# Altium footprint library DiodeRes.PcbLib: 13 footprints
Each footprint in its own frame and in the unit in brackets; x right, y up, seen from the top. Pads: shape width x height; smd on the part's side, far side on the other; paste and mask are expansions set on the pad; w line width, h text height; cw(c..) or ccw(c..) is an arc to the next point about the centre after c.
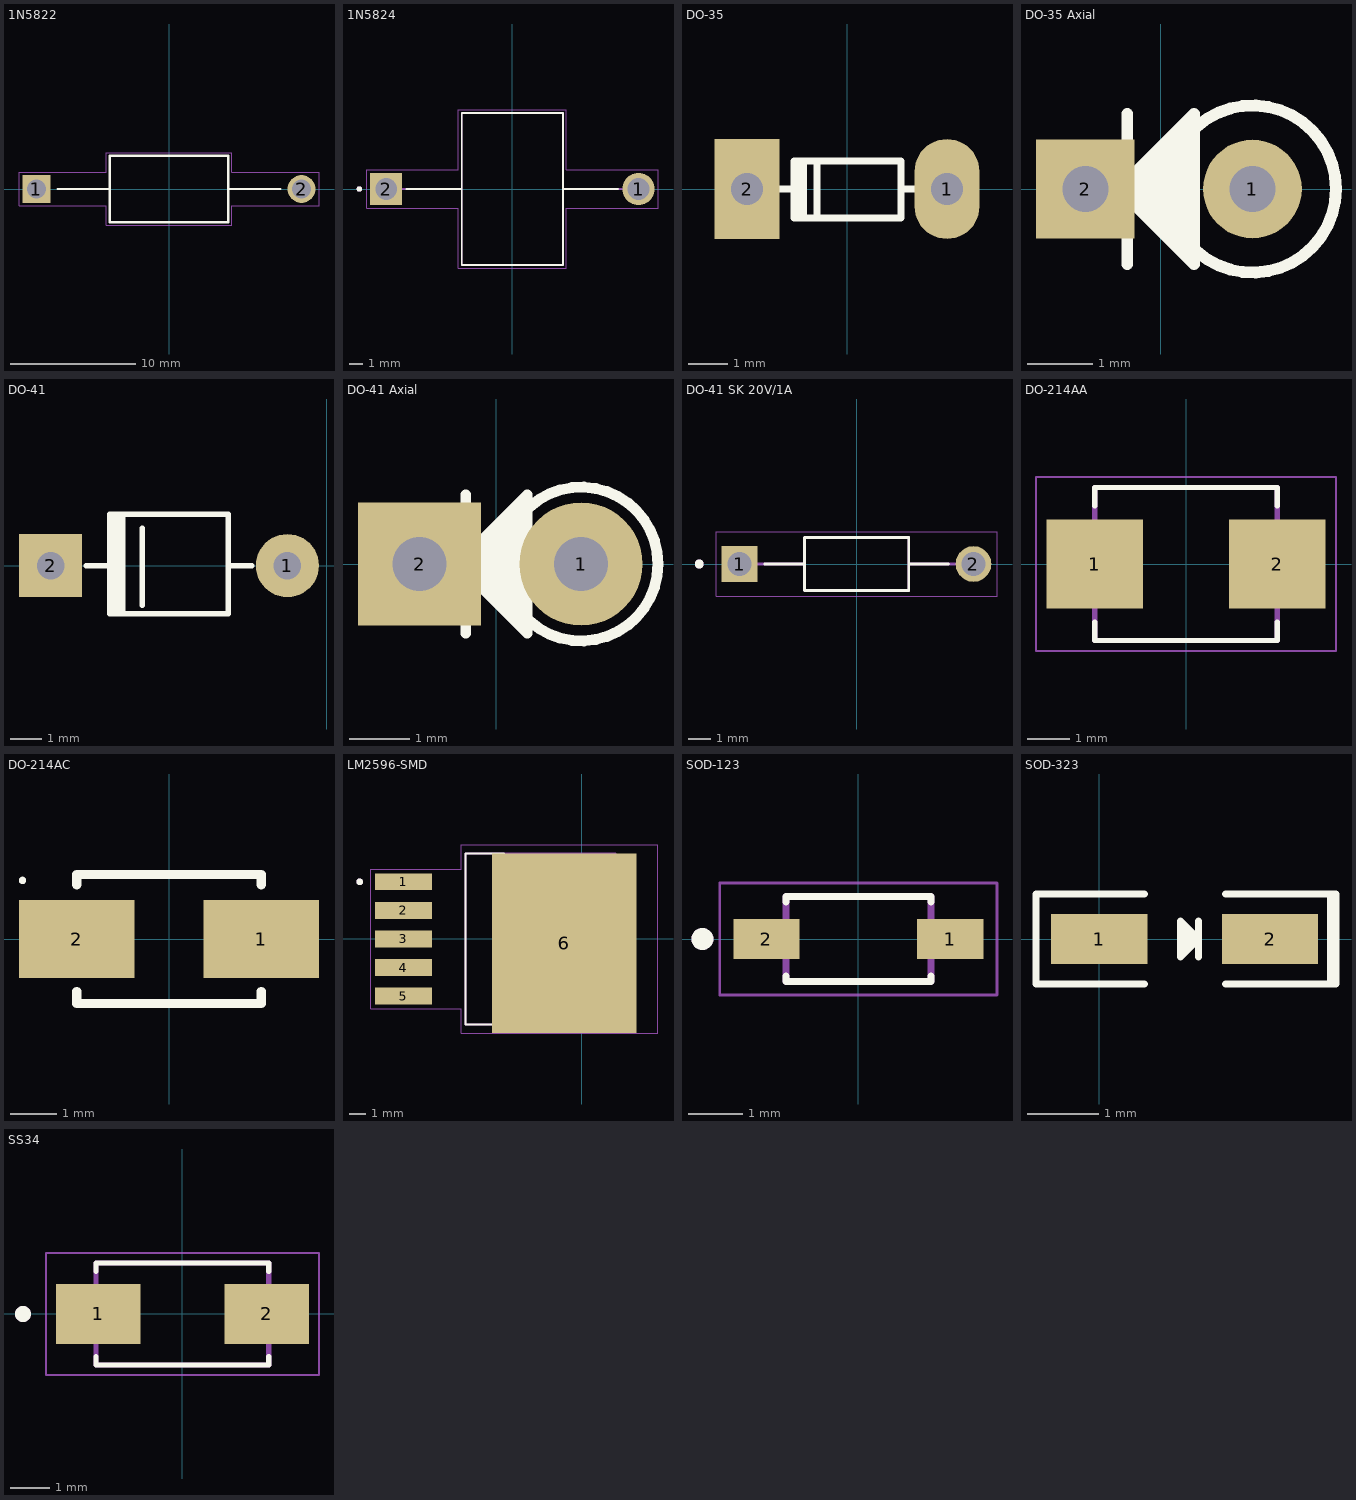
[diagram p0: the footprints below, top view; thin cyan lines are the x and y axes]

## 1N5822 [mm]
pads (2):
  rect 2.25x2.25 / inner round 2.25 / far side rect 2.25x2.25 hole 1.5: 1(-10.6,0)
  round 2.25 hole 1.5: 2(10.6,0)
Top Overlay:
  lines w0.2: -8.89,0 -4.8,0 ; 4.8,0 8.89,0 ; -4.75,-2.65 -4.75,2.65 4.75,2.65 4.75,-2.65 -4.75,-2.65
Mechanical 15:
  lines w0.05: -12,-1.35 -5,-1.35 -5,-2.9 5,-2.9 5,-1.35 12,-1.35 12,1.35 5,1.35 5,2.9 -5,2.9 -5,1.35 -12,1.35 -12,-1.35
3D body "step_temp.STEP": height 4.6, standoff -26.17, extent -8.1,-2.3 8.1,2.3

## 1N5824 [mm]
pads (2):
  round 2.43 hole 1.62: 1(9.49,0)
  rect 2.43x2.43 hole 1.62: 2(-9.49,0)
Top Overlay:
  circle w0.2: c-11.5,0 r0.1
  lines w0.127: -7.96,0 -3.81,0 ; 7.96,0 3.81,0 ; -3.81,0 -3.81,5.72 3.81,5.72 3.81,0 ; -3.81,0 -3.81,-5.72 3.81,-5.72 3.81,0
Mechanical 13:
  circle w0.2: c-11.5,0 r0.1
  lines w0.127: -8.275,0 -3.81,0 ; 8.275,0 3.81,0 ; -3.81,0 -3.81,5.72 3.81,5.72 3.81,0 ; -3.81,0 -3.81,-5.72 3.81,-5.72 3.81,0
Mechanical 15:
  lines w0.05: -10.955,-1.465 -4.06,-1.465 -4.06,-5.97 4.06,-5.97 4.06,-1.465 10.955,-1.465 10.955,1.465 4.06,1.465 4.06,5.97 -4.06,5.97 -4.06,1.465 -10.955,1.465 -10.955,-1.465

## DO-35 [mil] "Diode 0.5A"
height 80
pads (2):
  oval 65x100 hole 32: 1(100,0)
  rect 65x100 hole 32: 2(-100,0)
Top Overlay:
  rectangle: -55,-30 -40,25
  lines w7: -80,0 -53,0 ; -30,-29 -30,28 ; 54,0 80,0 ; -53,-29 -53,28 54,28 54,-29 -53,-29
3D body "SW3dPS-1N4148.STEP": height 61.22, standoff -50, extent -108.5,-32.96 108.5,32

## DO-35 Axial [mm] "Diode 0.5A Axial"
height 2.54
pads (2):
  round 1.5 hole 0.7: 1(1.397,0)
  rect 1.5x1.5 hole 0.7: 2(-1.143,0)
Top Overlay:
  circle w0.178: c1.397,0 r1.27
  region: 0.508,1.016 0.508,-1.016 0.381,-1.016 -0.508,-0.127 -0.508,0.127
  lines w0.178: -0.762,0 -0.508,0 ; -0.508,-1.143 -0.508,1.143 ; -0.508,-0.127 0.508,-1.143 0.508,1.143 -0.508,0.127 -0.508,-0.127

## DO-41 [mil] "Diode 1A"
height 100
pads (2):
  round 80 hole 35: 1(-50,0)
  rect 80x80 hole 35: 2(-350,0)
Top Overlay:
  rectangle: -275,-60.98 -255,65
  lines w7: -305,0 -275,0 ; -275,-16 -275,0 ; -275,21 -275,0 ; -234,-50 -234,47 ; -125,0 -95,0 ; -275,0 -275,65 -125,65 -125,-60.98 -275,-60.98 -275,0
3D body "User Library-DO-15-1.step": height 122.05, standoff -137.8, extent -365.75,-60.98 -34.25,65

## DO-41 Axial [mil] "Diode 1A Axial"
height 100
pads (2):
  round 80 hole 35: 1(55,0)
  rect 80x80 hole 35: 2(-50,0)
Top Overlay:
  circle w7: c55,0 r50
  region: 20,40 20,-40 15,-40 -20,-5 -20,5
  lines w7: -30,0 -20,0 ; -20,-45 -20,45 ; -20,-5 20,-45 20,45 -20,5 -20,-5

## DO-41 SK 20V/1A [mm] "Diode Schottky 20V 1A"
height 2.72
pads (2):
  rect 1.59x1.59 / inner round 1.59 / far side rect 1.59x1.59 hole 1.06: 1(-5.197,0)
  round 1.59 hole 1.06: 2(5.197,0)
Top Overlay:
  circle w0.2: c-6.992,0 r0.1
  lines w0.127: -4.082,0 -2.318,0 ; 4.082,0 2.318,0 ; -2.318,0 -2.318,1.18 2.318,1.18 2.318,0 ; -2.318,0 -2.318,-1.18 2.318,-1.18 2.318,0
Mechanical 13:
  circle w0.2: c-6.992,0 r0.1
  lines w0.127: -5.197,0 -2.318,0 ; 5.197,0 2.318,0 ; -2.318,0 -2.318,1.18 2.318,1.18 2.318,0 ; -2.318,0 -2.318,-1.18 2.318,-1.18 2.318,0
Mechanical 15:
  lines w0.05: -6.242,-1.43 -6.242,1.43 6.242,1.43 6.242,-1.43 -6.242,-1.43
3D body "step_temp.STEP": height 2.69, standoff -21.77, extent -5.474,-1.346 5.474,1.346

## DO-214AA [mm]
pads (2):
  rect 2.28x2.12 smd: 1(-2.165,0) 2(2.165,0)
Top Overlay:
  lines w0.127: -2.163,-1.38 -2.163,-1.813 2.163,-1.813 2.163,-1.38 ; -2.163,1.38 -2.163,1.813 2.163,1.813 2.163,1.38
Mechanical 13:
  lines w0.127: -2.163,-1.813 -2.163,1.813 2.163,1.813 2.163,-1.813 -2.163,-1.813
Mechanical 15:
  lines w0.05: -3.555,-2.063 -3.555,2.063 3.555,2.063 3.555,-2.063 -3.555,-2.063
3D body "step_temp.STEP": height 2.65, standoff 0, extent -2.675,-1.813 2.675,1.813

## DO-214AC [mm]
pads (2):
  rect 2.5x1.7 smd: 1(2,0) 2(-2,0)
Top Overlay:
  circle w0.08: c-3.175,1.27 r0.04
  lines w0.2: -2,-1.4 2,-1.4 2,-1.14 ; -2,-1.365 -2,-1.14 ; -2,1.175 -2,1.4 2,1.4 2,1.175
3D body "M7.STEP": height 2.2, standoff 0, extent -2.5,-1.35 2.5,1.35

## LM2596-SMD [mm]
pads (6):
  rect 3.4x1 smd paste-0.05 mask+0.07: 1(-10.6,3.4) 2(-10.6,1.7) 3(-10.6,0) 4(-10.6,-1.7) 5(-10.6,-3.4)
  rect 8.6x10.7 smd paste-0.05 mask+0.07: 6(-1.016,-0.254)
Top Overlay:
  circle w0.2: c-13.2,3.4 r0.1
  lines w0.127: -4.62,-5.08 -6.905,-5.08 -6.905,5.08 -4.62,5.08
Mechanical 13:
  circle w0.2: c-13.2,3.4 r0.1
  lines w0.127: -6.905,-5.08 -6.905,5.08 2.02,5.08 2.02,-5.08 -6.905,-5.08
Mechanical 15:
  lines w0.05: -12.55,-4.15 -7.155,-4.15 -7.155,-5.6 4.55,-5.6 4.55,5.6 -7.155,5.6 -7.155,4.15 -12.55,4.15 -12.55,-4.15
3D body "step_temp.STEP": height 4.65, standoff -0.15, extent -9.335,-5.08 5.016,5.08

## SOD-123 [mm] "Diode Zener 3.3V 6% 500mW 2Pin SOD123"
height 1.35
pads (2):
  rect 1.21x0.73 smd: 1(1.68,0) 2(-1.68,0)
Top Overlay:
  circle w0.2: c-2.85,0 r0.1
  lines w0.127: -1.325,-0.679 -1.325,-0.775 1.325,-0.775 1.325,-0.679 ; -1.325,0.679 -1.325,0.775 1.325,0.775 1.325,0.679
Mechanical 13:
  circle w0.2: c-2.85,0 r0.1
  lines w0.127: -1.325,-0.775 -1.325,0.775 1.325,0.775 1.325,-0.775 -1.325,-0.775
Mechanical 15:
  lines w0.05: -2.535,-1.025 -2.535,1.025 2.535,1.025 2.535,-1.025 -2.535,-1.025
3D body "step_temp.STEP": height 1.44, standoff -0.01, extent -1.825,-0.775 1.825,0.775

## SOD-323 [mm] "Zener Diodes ZENER SOD-323 .55W 3.3V"
pads (2):
  rect 1.35x0.7 smd mask+0: 1(0,0) 2(2.4,0)
Top Overlay:
  region: 1.143,0.254 1.397,0 1.143,-0.254
  lines w0.1: 0.635,-0.635 -0.889,-0.635 -0.889,0.635 0.635,0.635 ; 1.397,-0.254 1.397,0.254 ; 1.778,-0.635 3.302,-0.635 3.302,0.635 1.778,0.635 ; 3.251,-0.635 3.251,0.635 ; 3.327,-0.635 3.327,0.635 ; 1.143,-0.254 1.143,0.254 1.397,0 1.143,-0.254
3D body "BZX84J-C3V3,115.step": height 0.7, standoff -0.01, extent -0.107,-0.615 2.393,0.635

## SS34 [mm]
height 2.5
pads (2):
  rect 2.12x1.5 smd: 1(-2.115,0) 2(2.115,0)
Top Overlay:
  circle w0.2: c-4,0 r0.1
  lines w0.127: -2.165,-1.07 -2.165,-1.28 2.165,-1.28 2.165,-1.07 ; -2.165,1.07 -2.165,1.28 2.165,1.28 2.165,1.07
Mechanical 13:
  circle w0.2: c-4,0 r0.1
  lines w0.127: -2.165,-1.28 -2.165,1.28 2.165,1.28 2.165,-1.28 -2.165,-1.28
Mechanical 15:
  lines w0.05: -3.425,-1.53 -3.425,1.53 3.425,1.53 3.425,-1.53 -3.425,-1.53
3D body "step_temp.STEP": height 2.5, standoff 0, extent -2.57,-1.28 2.57,1.28